# Altium footprint library R1812(4532).PcbLib: 1 footprints
Each footprint in its own frame and in the unit in brackets; x right, y up, seen from the top. Pads: shape width x height; smd on the part's side, far side on the other; paste and mask are expansions set on the pad; w line width, h text height; cw(c..) or ccw(c..) is an arc to the next point about the centre after c.
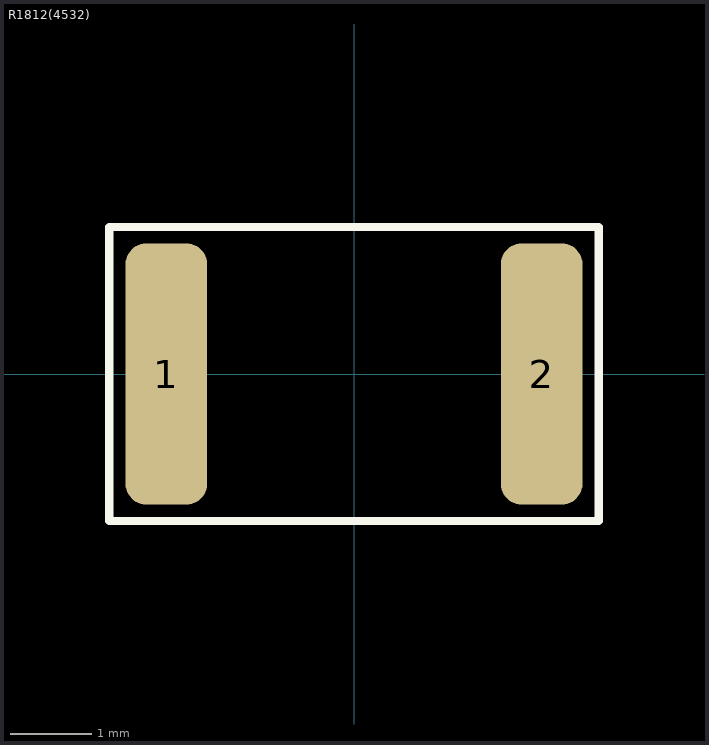
[diagram p0: the footprint, top view; thin cyan lines are the x and y axes]

## R1812(4532) [mm]
height 0.55
pads (2):
  rrect50% 1x3.2 smd: 1(-2.3,0) 2(2.3,0)
Top Overlay:
  lines w0.1: -3,-1.8 -3,1.8 3,1.8 3,-1.8 -3,-1.8
3D body "SMD R-1812.STEP": height 0.6, standoff 0, extent -2.25,-1.6 2.25,1.6